# Altium schematic symbol library qmap_logo.SchLib: 1 symbol
Pins are listed as number, name and electrical type; pins without a type are passive.

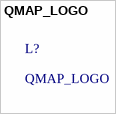
[diagram p0: symbol QMAP_LOGO]

## QMAP_LOGO
designator L?
footprint QMAP_LOGO